# Altium footprint library RUT2CLOUD.PcbLib: 44 footprints (part 2 of 3)
Each footprint in its own frame and in the unit in brackets; x right, y up, seen from the top. Pads: shape width x height; smd on the part's side, far side on the other; paste and mask are expansions set on the pad; w line width, h text height; cw(c..) or ccw(c..) is an arc to the next point about the centre after c.
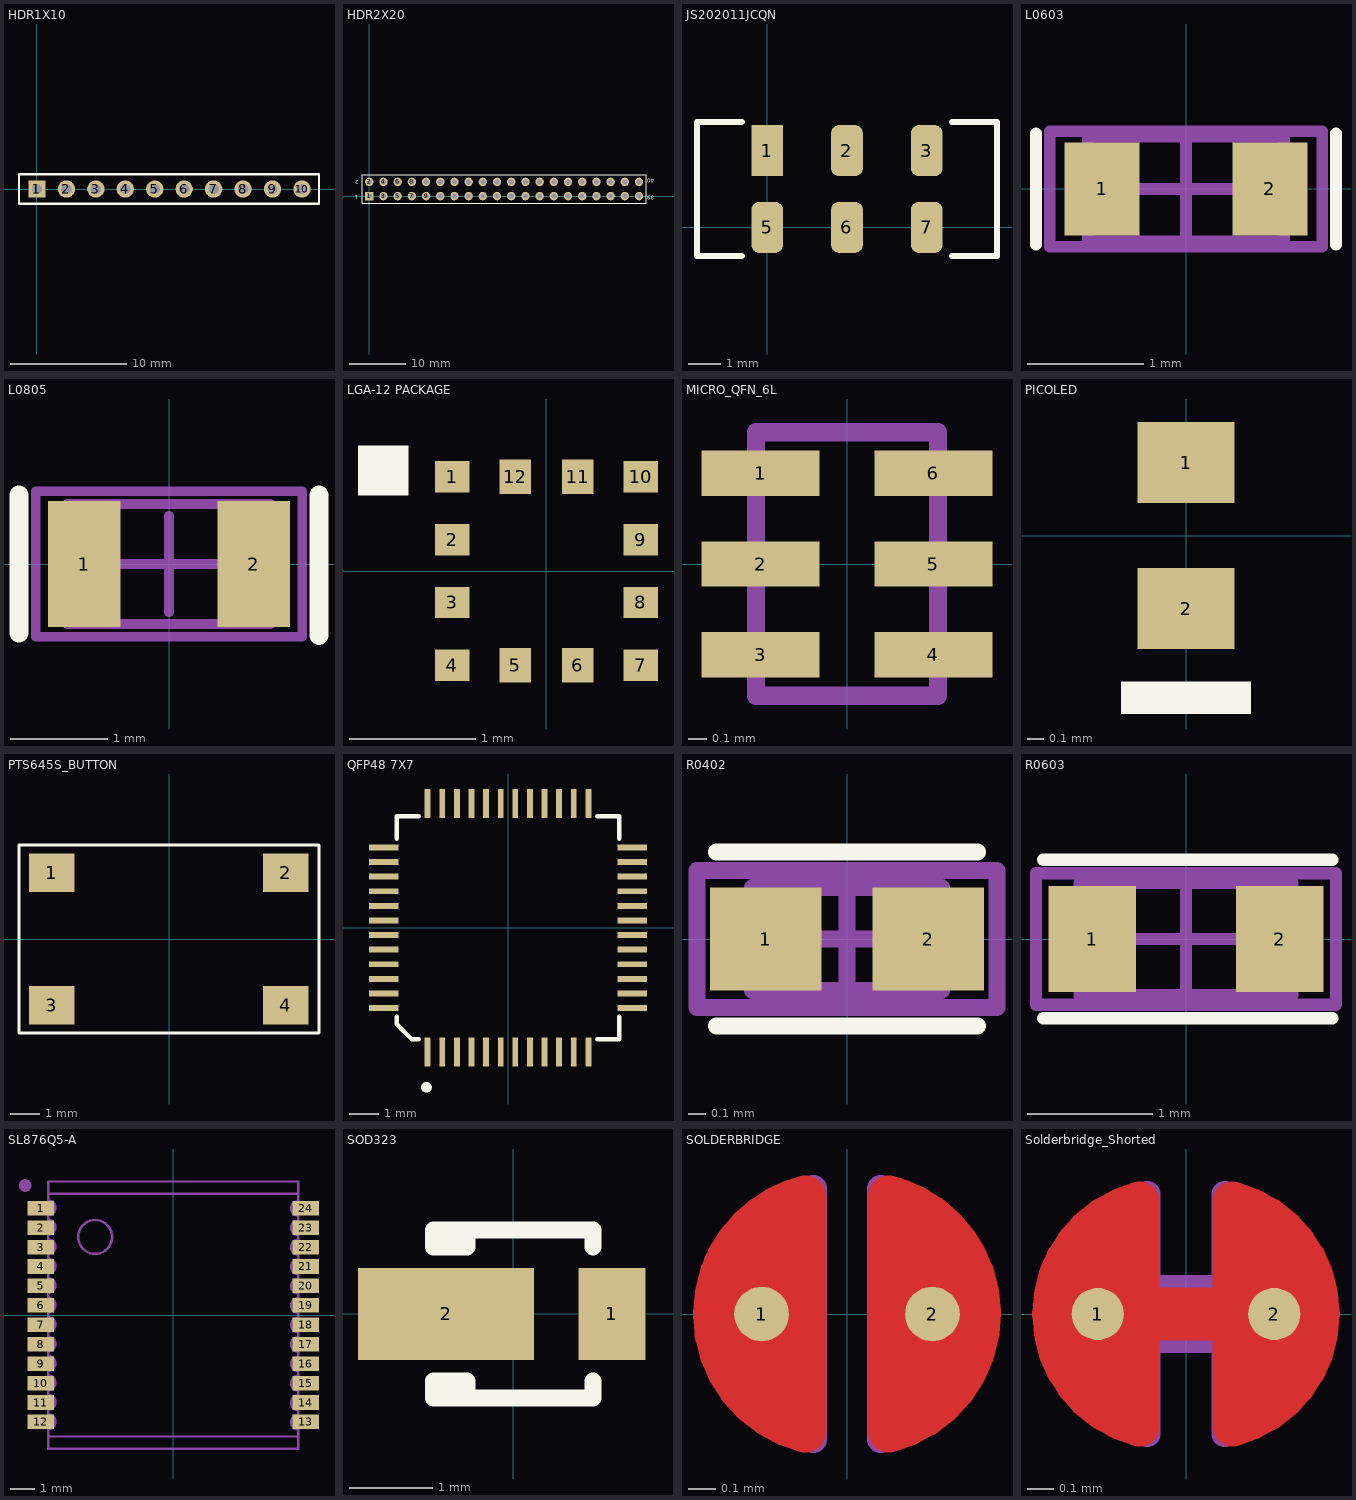
[diagram p1: the footprints below, top view; thin cyan lines are the x and y axes]

## HDR1X10 [mm] "Connector; Header; 10 Position"
pads (10):
  rect 1.5x1.5 hole 0.9: 1(0,0)
  round 1.5 hole 0.9: 2(2.54,0) 3(5.08,0) 4(7.62,0) 5(10.16,0) 6(12.7,0) 7(15.24,0) 8(17.78,0) 9(20.32,0) 10(22.86,0)
Top Overlay:
  lines w0.2: -1.55,-1.27 -1.55,1.27 0.635,1.27 24.33,1.27 24.33,-1.27 -1.55,-1.27
3D body "zl262-10s_p2-54_l25-9_w2-5_h8-5.stp": height 8.6, standoff -2.9, extent -1.57,-1.29 24.33,1.25

## HDR2X20 [mm] "Connector; Header; 20x2 Position"
pads (40):
  rect 1.5x1.5 hole 0.9: 1(0,0)
  round 1.5 hole 0.9: 2(0,2.54) 3(2.54,0) 4(2.54,2.54) 5(5.08,0) 6(5.08,2.54) 7(7.62,0) 8(7.62,2.54) 9(10.16,0) 10(10.16,2.54) 11(12.7,0) 12(12.7,2.54) 13(15.24,0) 14(15.24,2.54) 15(17.78,0) 16(17.78,2.54) 17(20.32,0) 18(20.32,2.54) 19(22.86,0) 20(22.86,2.54) 21(25.4,0) 22(25.4,2.54) 23(27.94,0) 24(27.94,2.54) 25(30.48,0) 26(30.48,2.54) 27(33.02,0) 28(33.02,2.54) 29(35.56,0) 30(35.56,2.54) 31(38.1,0) 32(38.1,2.54) 33(40.64,0) 34(40.64,2.54) 35(43.18,0) 36(43.18,2.54) 37(45.72,0) 38(45.72,2.54) 39(48.26,0) 40(48.26,2.54)
Top Overlay:
  lines w0.2: -1.27,-1.27 -1.27,3.81 49.53,3.81 49.53,-1.27 -1.27,-1.27
  text "39" at 50.95,0.049 h0.7
  text "40" at 50.956,3.109 h0.7
  text "2" at -1.894,2.838 h0.7
  text "1" at -2.016,0.111 h0.7

## JS202011JCQN [mm]
pads (6):
  rect 1x1.6 smd: 1(0,2.4)
  rrect50% 1x1.6 smd: 2(2.5,2.4) 3(5,2.4) 5(0,0) 6(2.5,0) 7(5,0)
Top Overlay:
  lines w0.2: -0.8,-0.9 -2.2,-0.9 -2.2,3.3 -0.8,3.3 ; 5.8,-0.9 7.2,-0.9 7.2,3.3 5.8,3.3
3D body "JS202011JCQN.stp": height 5.62, standoff 0.02, extent -2,-0.6 7,3

## L0603 [mm] "Chip Inductor, 2-Leads, Body 1,6x0,8mm, IPC High Density"
height 1
pads (2):
  rect 0.65x0.8 smd: 1(-0.725,0) 2(0.725,0)
Top Overlay:
  lines w0.1: -1.295,-0.483 -1.295,0.483 ; 1.295,-0.483 1.295,0.483
Mechanical 13:
  lines w0.1: -0.85,-0.45 -0.85,0.45 0.85,0.45 0.85,-0.45 -0.85,-0.45
Mechanical 15:
  lines w0.1: -0.45,0 0.45,0 ; 0,-0.45 0,0.45 ; -1.175,-0.5 -1.175,0.5 1.175,0.5 1.175,-0.5 -1.175,-0.5
3D body "45630.stp": height 0.78, standoff -0.02, extent -0.8,-0.4 0.8,0.4

## L0805 [mm] "Chip Inductor, 2-Leads, Body 2,0x1,3mm, IPC High Density"
height 1
pads (2):
  rect 0.75x1.3 smd: 1(-0.875,0) 2(0.875,0)
Top Overlay:
  lines w0.2: -1.549,-0.711 -1.549,0.711 ; 1.549,-0.737 1.549,0.711
Mechanical 13:
  lines w0.1: -1.05,-0.62 -1.05,0.62 1.05,0.62 1.05,-0.62 -1.05,-0.62
Mechanical 15:
  lines w0.1: -0.5,0 0.5,0 ; 0,-0.5 0,0.5 ; -1.375,-0.75 -1.375,0.75 1.375,0.75 1.375,-0.75 -1.375,-0.75
3D body "45634.stp": height 0.5, standoff 0, extent -1,-0.625 1,0.625

## LGA-12 PACKAGE [mm]
pads (12):
  rect 0.275x0.25 smd: 1(-0.75,0.75) 2(-0.75,0.25) 3(-0.75,-0.25) 4(-0.75,-0.75) 7(0.75,-0.75) 8(0.75,-0.25) 9(0.75,0.25) 10(0.75,0.75)
  rect 0.25x0.275 smd: 5(-0.25,-0.75) 6(0.25,-0.75) 11(0.25,0.75) 12(-0.25,0.75)
Top Overlay:
  rectangle: -1.5,0.6 -1.1,1
3D body "User Library-LIS2DW12-1.STEP": height 0.7, standoff 0, extent -1,-1 1,1

## MICRO_QFN_6L [mm] "1.45x1.00"
height 0.55
pads (6):
  rect 0.65x0.25 smd: 1(-0.475,0.5) 2(-0.475,0) 3(-0.475,-0.5) 4(0.475,-0.5) 5(0.475,0) 6(0.475,0.5)
Mechanical 1:
  lines w0.1: -0.5,-0.725 -0.5,0.725 0.5,0.725 0.5,-0.725 -0.5,-0.725
3D body: height 0.55, standoff 0, extent -0.5,-0.725 0.5,0.725

## PICOLED [mm] "PICOLED  TM  -eco/PICOLED  TM"
height 0.2
pads (2):
  rect 0.6x0.5 smd: 1(0,0.45) 2(0,-0.45)
Top Overlay:
  rectangle: -0.4,-1.1 0.4,-0.9
3D body "User Library-LED_1006_W.STEP": height 0.2, standoff 0, extent -0.3,-0.5 0.3,0.5

## PTS645S_BUTTON [mm] "Tactile pushbutton SMD"
height 4
pads (4):
  rect 1.55x1.3 smd: 1(-3.98,2.25) 2(3.97,2.25) 3(-3.99,-2.25) 4(3.97,-2.25)
Top Overlay:
  lines w0.1: -5.1,-3.2 -5.1,3.2 5.1,3.2 5.1,-3.2 -5.1,-3.2
3D body "User Library-PTS645SL50SMTR92-LFS.STEP": height 5, standoff 0, extent -4.5,-3 4.5,3

## QFP48 7X7 [mm]
pads (48):
  rect 0.2x1 smd: 1(-2.75,-4.25) 2(-2.25,-4.25) 3(-1.75,-4.25) 4(-1.25,-4.25) 5(-0.75,-4.25) 6(-0.25,-4.25) 7(0.25,-4.25) 8(0.75,-4.25) 9(1.25,-4.25) 10(1.75,-4.25) 11(2.25,-4.25) 12(2.75,-4.25) 25(2.75,4.25) 26(2.25,4.25) 27(1.75,4.25) 28(1.25,4.25) 29(0.75,4.25) 30(0.25,4.25) 31(-0.25,4.25) 32(-0.75,4.25) 33(-1.25,4.25) 34(-1.75,4.25) 35(-2.25,4.25) 36(-2.75,4.25)
  rect 1x0.2 smd: 13(4.25,-2.75) 14(4.25,-2.25) 15(4.25,-1.75) 16(4.25,-1.25) 17(4.25,-0.75) 18(4.25,-0.25) 19(4.25,0.25) 20(4.25,0.75) 21(4.25,1.25) 22(4.25,1.75) 23(4.25,2.25) 24(4.25,2.75) 37(-4.25,2.75) 38(-4.25,2.25) 39(-4.25,1.75) 40(-4.25,1.25) 41(-4.25,0.75) 42(-4.25,0.25) 43(-4.25,-0.25) 44(-4.25,-0.75) 45(-4.25,-1.25) 46(-4.25,-1.75) 47(-4.25,-2.25) 48(-4.25,-2.75)
Top Overlay:
  circle w0.25: c-2.792,-5.461 r0.059
  lines w0.152: -3.81,-3.048 -3.81,-3.302 -3.302,-3.81 -3.048,-3.81 ; -3.81,3.048 -3.81,3.81 -3.048,3.81 ; 3.048,-3.81 3.81,-3.81 3.81,-3.048 ; 3.048,3.81 3.81,3.81 3.81,3.048
3D body "User Library-P-LQFP48-7x7-0_50.step": height 1.45, standoff 0, extent -4.5,-4.5 4.5,4.5

## R0402 [mm] "Chip resistor 0402"
height 0.6
pads (2):
  rect 0.65x0.6 smd: 1(-0.475,0) 2(0.475,0)
Top Overlay:
  lines w0.1: -0.762,-0.508 0.762,-0.508 ; -0.762,0.508 0.762,0.508
Mechanical 13:
  lines w0.1: -0.55,-0.3 0.55,-0.3 0.55,0.3 -0.55,0.3 -0.55,-0.3
Mechanical 15:
  lines w0.1: -0.3,0 0.3,0 ; 0,-0.3 0,0.3 ; -0.875,-0.4 0.875,-0.4 0.875,0.4 -0.875,0.4 -0.875,-0.4
3D body "SW3dPS-0402 SMD Resistor.STEP": height 0.2, standoff 0, extent -0.5,-0.3 0.5,0.3

## R0603 [mm] "Chip Resistor, 2-Leads, Body 1,6x0,8mm, IPC High Density"
height 1
pads (2):
  rect 0.7x0.85 smd: 1(-0.75,0) 2(0.75,0)
Top Overlay:
  lines w0.1: -1.143,-0.635 1.168,-0.635 ; -1.143,0.635 1.168,0.635
Mechanical 13:
  lines w0.1: -0.85,-0.45 -0.85,0.45 0.85,0.45 0.85,-0.45 -0.85,-0.45
Mechanical 15:
  lines w0.1: -0.45,0 0.45,0 ; 0,-0.45 0,0.45 ; -1.2,-0.525 -1.2,0.525 1.2,0.525 1.2,-0.525 -1.2,-0.525
3D body "SW3dPS-0603 SMD Resistor.STEP": height 0.3, standoff 0, extent -0.775,-0.406 0.825,0.394

## SL876Q5-A [mm] "SL871"
height 2.6
pads (24):
  rect 1.1x0.6 smd mask+0.05: 1(-5.45,4.4) 2(-5.45,3.6) 3(-5.45,2.8) 4(-5.45,2) 5(-5.45,1.2) 6(-5.45,0.4) 7(-5.45,-0.4) 8(-5.45,-1.2) 9(-5.45,-2) 10(-5.45,-2.8) 11(-5.45,-3.6) 12(-5.45,-4.4) 13(5.45,-4.4) 14(5.45,-3.6) 15(5.45,-2.8) 16(5.45,-2) 17(5.45,-1.2) 18(5.45,-0.4) 19(5.45,0.4) 20(5.45,1.2) 21(5.45,2) 22(5.45,2.8) 23(5.45,3.6) 24(5.45,4.4)
Mechanical 1:
  region: -5.842,5.334 -5.842,5.385 -5.881,5.478 -5.952,5.549 -6.045,5.588 -6.096,5.588 -6.147,5.588 -6.24,5.549 -6.311,5.478 -6.35,5.385 -6.35,5.334 -6.35,5.283 -6.311,5.19 -6.24,5.119 -6.147,5.08 -6.096,5.08 -6.045,5.08 -5.952,5.119 -5.881,5.19 -5.842,5.283
  lines w0.1: -5.15,-5 5.15,-5 ; -5.15,-4.69 ccw(c-5.15,-4.39) -5.15,-4.09 ; -5.15,-3.889 ccw(c-5.15,-3.589) -5.15,-3.289 ; -5.15,-3.088 ccw(c-5.15,-2.788) -5.15,-2.488 ; -5.15,-2.287 ccw(c-5.15,-1.987) -5.15,-1.687 ; -5.15,-1.486 ccw(c-5.15,-1.186) -5.15,-0.886 ; -5.15,-0.685 ccw(c-5.15,-0.385) -5.15,-0.085 ; -5.15,0.115 ccw(c-5.15,0.415) -5.15,0.715 ; -5.15,0.916 ccw(c-5.15,1.216) -5.15,1.516 ; -5.15,1.717 ccw(c-5.15,2.017) -5.15,2.317 ; -5.15,2.518 ccw(c-5.15,2.818) -5.15,3.118 ; -5.15,3.319 ccw(c-5.15,3.619) -5.15,3.919 ; -5.15,4.12 ccw(c-5.15,4.42) -5.15,4.72 ; -5.15,5 5.15,5 ; 5.15,-4.71 cw(c5.15,-4.41) 5.15,-4.11 ; 5.15,-3.91 cw(c5.15,-3.61) 5.15,-3.31 ; 5.15,-3.11 cw(c5.15,-2.81) 5.15,-2.51 ; 5.15,-2.31 cw(c5.15,-2.01) 5.15,-1.71 ; 5.15,-1.51 cw(c5.15,-1.21) 5.15,-0.91 ; 5.15,-0.71 cw(c5.15,-0.41) 5.15,-0.11 ; 5.15,0.09 cw(c5.15,0.39) 5.15,0.69 ; 5.15,0.89 cw(c5.15,1.19) 5.15,1.49 ; 5.15,1.69 cw(c5.15,1.99) 5.15,2.29 ; 5.15,2.49 cw(c5.15,2.79) 5.15,3.09 ; 5.15,3.29 cw(c5.15,3.59) 5.15,3.89 ; 5.15,4.09 cw(c5.15,4.39) 5.15,4.69 ; -5.15,-5.5 -5.15,5.5 5.15,5.5 5.15,-5.5 -5.15,-5.5 ; -3.913,3.216 cw(c-3.216,3.216) -3.216,3.913 cw(c-3.216,3.216) -2.519,3.216 cw(c-3.216,3.216) -3.216,2.519 cw(c-3.216,3.216) -3.913,3.216
3D body: height 1.6, standoff 0.1, extent -3.8,1.7 -3.3,4.15
3D body: height 1.5, standoff 0.6, extent -3.99,1.57 4.13,4.33
3D body: height 1.5, standoff 0.6, extent -4.76,-4.85 4.77,0.79
3D body: height 0.6, standoff 0, extent -5.15,-5 5.15,5

## SOD323 [mm] "SOD-323/SC-76; 2 Leads; Body 1.7 x 1.3 mm, (LxW)"
height 1.1
pads (2):
  rect 0.8x1.1 smd: 1(1.175,0)
  rect 2.1x1.1 smd: 2(-0.8,0)
Top Overlay:
  lines w0.2: -0.55,-1 -0.55,-0.8 -0.95,-0.8 -0.95,-1 0.95,-1 0.95,-0.8 ; -0.55,1 -0.55,0.8 -0.95,0.8 -0.95,1 0.95,1 0.95,0.8
3D body "User Library-SOD323-1.step": height 1.1, standoff 0, extent -1.4,-0.675 1.2,0.675
3D body: height 0.25, standoff 0, extent -0.762,0.635 -0.762,0.635

## SOLDERBRIDGE [mm]
pads (2):
  round 0.2 smd paste-10: 1(-0.312,0) 2(0.312,0)
Top Layer:
  region: 0.077,0.432 0.152,0.505 0.271,0.467 0.335,0.424 0.409,0.351 0.462,0.292 0.521,0.193 0.549,0.099 0.544,-0.122 0.518,-0.193 0.434,-0.33 0.351,-0.411 0.259,-0.469 0.157,-0.5 0.107,-0.483 0.077,-0.43
  region: -0.077,-0.432 -0.152,-0.505 -0.271,-0.467 -0.335,-0.424 -0.409,-0.351 -0.462,-0.292 -0.521,-0.193 -0.549,-0.099 -0.544,0.122 -0.518,0.193 -0.434,0.33 -0.351,0.411 -0.259,0.469 -0.157,0.5 -0.107,0.483 -0.077,0.43
  lines w0.152: -0.153,-0.431 cw(c-0.042,0) -0.487,-0.001 cw(c-0.042,0) -0.487,0 cw(c-0.042,0) -0.461,0.149 cw(c-0.042,0) -0.432,0.214 cw(c-0.042,0) -0.257,0.39 cw(c-0.042,0) -0.153,0.431 ; 0.153,-0.431 ccw(c0.042,0) 0.461,0.149 ccw(c0.042,0) 0.193,0.418 ccw(c0.042,0) 0.153,0.431
Top Solder:
  circle w0.61: c-0.003,0 r0.279
Mechanical 7:
  lines w0.1: -0.123,-0.459 cw(c-0.042,0) -0.123,0.459 -0.123,-0.459 ; 0.123,-0.459 ccw(c0.042,0) 0.123,0.459 0.123,-0.459

## Solderbridge_Shorted [mm]
pads (2):
  round 0.2 smd paste-10: 1(-0.338,0) 2(0.338,0)
Top Layer:
  region: -0.102,-0.432 -0.178,-0.505 -0.296,-0.467 -0.361,-0.424 -0.434,-0.351 -0.488,-0.292 -0.546,-0.193 -0.574,-0.099 -0.569,0.122 -0.544,0.193 -0.46,0.33 -0.376,0.411 -0.284,0.469 -0.183,0.5 -0.132,0.483 -0.102,0.43
  region: 0.102,0.432 0.178,0.505 0.296,0.467 0.361,0.424 0.434,0.351 0.488,0.292 0.546,0.193 0.574,0.099 0.569,-0.122 0.544,-0.193 0.46,-0.33 0.376,-0.411 0.284,-0.469 0.183,-0.5 0.132,-0.483 0.102,-0.43
  lines w0.152: -0.178,-0.431 cw(c-0.068,0) -0.178,0.431 ; 0.178,-0.431 ccw(c0.068,0) 0.178,0.431
  lines w0.203: -0.338,0 0.338,0
Top Solder:
  circle w0.61: c0.028,0 r0.279
  circle w0.61: c-0.028,0 r0.279
Mechanical 7:
  lines w0.1: -0.148,-0.459 cw(c-0.067,0) -0.148,0.459 -0.148,0.1 0.148,0.1 0.148,0.459 cw(c0.067,0) 0.148,-0.459 0.148,-0.1 -0.148,-0.1 -0.148,-0.459